# EAGLE library part THT_2X4_2.54 (library EW_Connectors)
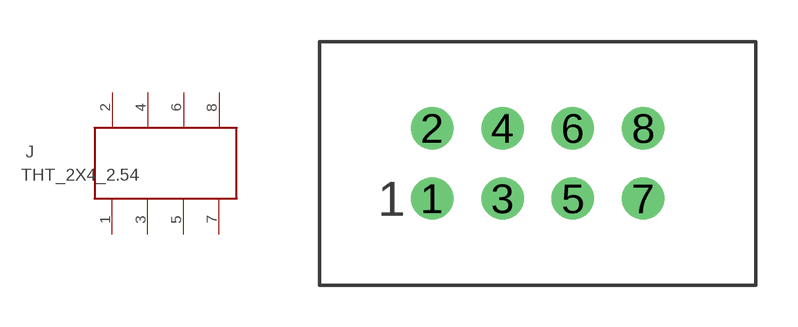
[diagram p15: symbol with the pads of THT_2X4_2.54; footprint THT_2X4_2.54]

Designator prefix J

## THT_2X4_2.54  [THT_2X4_2.54]
1  1  pas
2  2  pas
3  3  pas
4  4  pas
5  5  pas
6  6  pas
7  7  pas
8  8  pas

## Footprint THT_2X4_2.54 (pad centres in mm)
THT, 2.54mm Male Box Header With Lever, 50 Pins, 2rows
drill 1.02: 1 -3.81,-1.27; 2 -3.81,1.27; 3 -1.27,-1.27; 4 -1.27,1.27; 5 1.27,-1.27; 6 1.27,1.27; 7 3.81,-1.27; 8 3.81,1.27